# Altium footprint library k7sch2.PcbLib: 5 footprints
Each footprint in its own frame and in the unit in brackets; x right, y up, seen from the top. Pads: shape width x height; smd on the part's side, far side on the other; paste and mask are expansions set on the pad; w line width, h text height; cw(c..) or ccw(c..) is an arc to the next point about the centre after c.
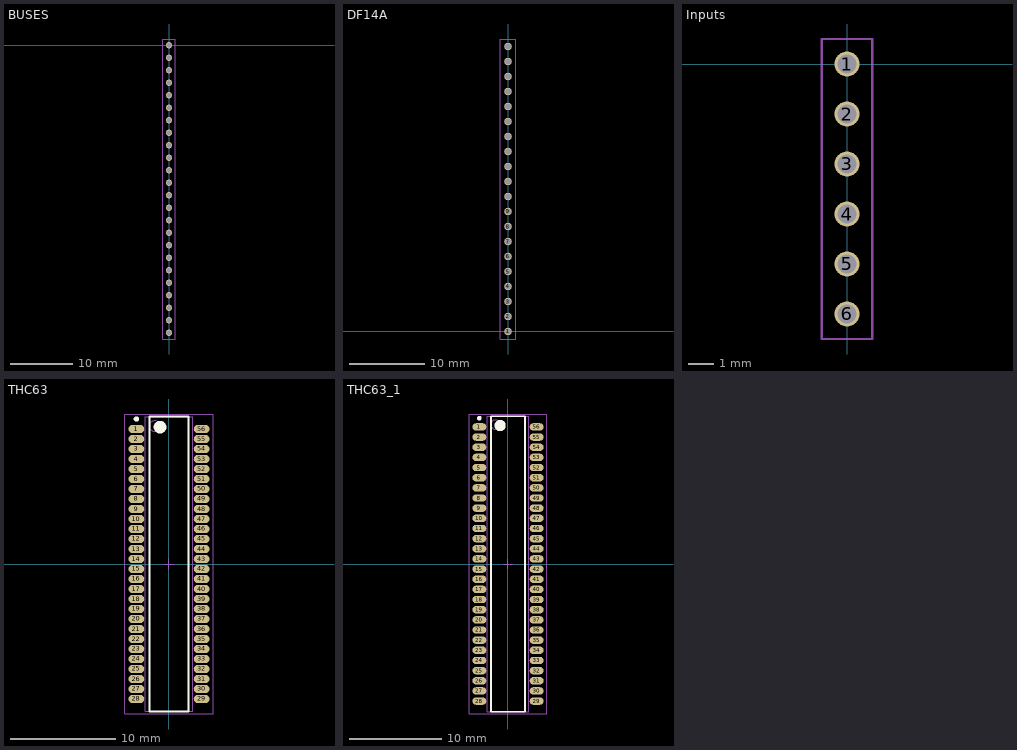
[diagram p0: the footprints below, top view; thin cyan lines are the x and y axes]

## BUSES [mm]
pads (24):
  round 1 hole 0.75: 1(0,0) 2(0,-2) 3(0,-4) 4(0,-6) 5(0,-8) 6(0,-10) 7(0,-12) 8(0,-14) 9(0,-16) 10(0,-18) 11(0,-20) 12(0,-22) 13(0,-24) 14(0,-26) 15(0,-28) 16(0,-30) 17(0,-32) 18(0,-34) 19(0,-36) 20(0,-38) 21(0,-40) 22(0,-42) 23(0,-44) 24(0,-46)
Mechanical 15:
  lines w0.1: -1,-47 -1,1 1,1 1,-47 -1,-47

## DF14A [mm]
pads (20):
  round 1 hole 0.75: 1(0,0) 2(0,2) 3(0,4) 4(0,6) 5(0,8) 6(0,10) 7(0,12) 8(0,14) 9(0,16) 10(0,18) 11(0,20) 12(0,22) 13(0,24) 14(0,26) 15(0,28) 16(0,30) 17(0,32) 18(0,34) 19(0,36) 20(0,38)
Mechanical 15:
  lines w0.1: -1,-1 1,-1 1,39 -1,39 -1,-1

## Inputs [mm]
pads (6):
  round 1 hole 0.75: 1(0,0) 2(0,-2) 3(0,-4) 4(0,-6) 5(0,-8) 6(0,-10)
Mechanical 15:
  lines w0.1: -1,-11 -1,1 1,1 1,-11 -1,-11

## THC63 [mm]
height 2.35
pads (56):
  oval 1.5x0.8 smd: 1(-3.1,12.825) 2(-3.1,11.875) 3(-3.1,10.925) 4(-3.1,9.975) 5(-3.1,9.025) 6(-3.1,8.075) 7(-3.1,7.125) 8(-3.1,6.175) 9(-3.1,5.225) 10(-3.1,4.275) 11(-3.1,3.325) 12(-3.1,2.375) 13(-3.1,1.425) 14(-3.1,0.475) 15(-3.1,-0.475) 16(-3.1,-1.425) 17(-3.1,-2.375) 18(-3.1,-3.325) 19(-3.1,-4.275) 20(-3.1,-5.225) 21(-3.1,-6.175) 22(-3.1,-7.125) 23(-3.1,-8.075) 24(-3.1,-9.025) 25(-3.1,-9.975) 26(-3.1,-10.925) 27(-3.1,-11.875) 28(-3.1,-12.825) 29(3.1,-12.825) 30(3.1,-11.875) 31(3.1,-10.925) 32(3.1,-9.975) 33(3.1,-9.025) 34(3.1,-8.075) 35(3.1,-7.125) 36(3.1,-6.175) 37(3.1,-5.225) 38(3.1,-4.275) 39(3.1,-3.325) 40(3.1,-2.375) 41(3.1,-1.425) 42(3.1,-0.475) 43(3.1,0.475) 44(3.1,1.425) 45(3.1,2.375) 46(3.1,3.325) 47(3.1,4.275) 48(3.1,5.225) 49(3.1,6.175) 50(3.1,7.125) 51(3.1,8.075) 52(3.1,9.025) 53(3.1,9.975) 54(3.1,10.925) 55(3.1,11.875) 56(3.1,12.825)
Top Overlay:
  circle w0.25: c-3.1,13.775 r0.125
  circle w0.6: c-0.85,13 r0.3
  lines w0.2: -1.85,-14 -1.85,14 1.85,14 1.85,-14 -1.85,-14
Mechanical 13:
  circle w0.1: c-1.35,13.1 r0.5
  lines w0.1: -2.25,-14 -2.25,14 2.25,14 2.25,-14 -2.25,-14
Mechanical 15:
  lines w0.05: -4.2,-14.25 -4.2,14.25 4.2,14.25 4.2,-14.25 -4.2,-14.25
  lines w0.1: -0.5,0 0.5,0 ; 0,-0.5 0,0.5
3D body: height 2.35, standoff 0.1, extent -2.25,-14 2.25,14

## THC63_1 [mm]
height 2.35
pads (56):
  oval 1.5x0.8 smd: 1(-3.1,14.85) 2(-3.1,13.75) 3(-3.1,12.65) 4(-3.1,11.55) 5(-3.1,10.45) 6(-3.1,9.35) 7(-3.1,8.25) 8(-3.1,7.15) 9(-3.1,6.05) 10(-3.1,4.95) 11(-3.1,3.85) 12(-3.1,2.75) 13(-3.1,1.65) 14(-3.1,0.55) 15(-3.1,-0.55) 16(-3.1,-1.65) 17(-3.1,-2.75) 18(-3.1,-3.85) 19(-3.1,-4.95) 20(-3.1,-6.05) 21(-3.1,-7.15) 22(-3.1,-8.25) 23(-3.1,-9.35) 24(-3.1,-10.45) 25(-3.1,-11.55) 26(-3.1,-12.65) 27(-3.1,-13.75) 28(-3.1,-14.85) 29(3.1,-14.85) 30(3.1,-13.75) 31(3.1,-12.65) 32(3.1,-11.55) 33(3.1,-10.45) 34(3.1,-9.35) 35(3.1,-8.25) 36(3.1,-7.15) 37(3.1,-6.05) 38(3.1,-4.95) 39(3.1,-3.85) 40(3.1,-2.75) 41(3.1,-1.65) 42(3.1,-0.55) 43(3.1,0.55) 44(3.1,1.65) 45(3.1,2.75) 46(3.1,3.85) 47(3.1,4.95) 48(3.1,6.05) 49(3.1,7.15) 50(3.1,8.25) 51(3.1,9.35) 52(3.1,10.45) 53(3.1,11.55) 54(3.1,12.65) 55(3.1,13.75) 56(3.1,14.85)
Top Overlay:
  circle w0.6: c-0.85,15 r0.3
  circle w0.25: c-3.1,15.8 r0.125
  lines w0.2: -1.85,-16 1.85,-16 1.85,16 -1.85,16 -1.85,-16
Mechanical 13:
  circle w0.1: c-1.35,15.1 r0.5
  lines w0.1: -2.25,-16 2.25,-16 2.25,16 -2.25,16 -2.25,-16
Mechanical 15:
  lines w0.05: -4.2,-16.25 4.2,-16.25 4.2,16.25 -4.2,16.25 -4.2,-16.25
  lines w0.1: -0.5,0 0.5,0 ; 0,-0.5 0,0.5
3D body: height 2.35, standoff 0.1, extent -2.25,-16 2.25,16